# Altium footprint library A767KS106M2ALAE045.PcbLib: 1 footprints
Each footprint in its own frame and in the unit in brackets; x right, y up, seen from the top. Pads: shape width x height; smd on the part's side, far side on the other; paste and mask are expansions set on the pad; w line width, h text height; cw(c..) or ccw(c..) is an arc to the next point about the centre after c.
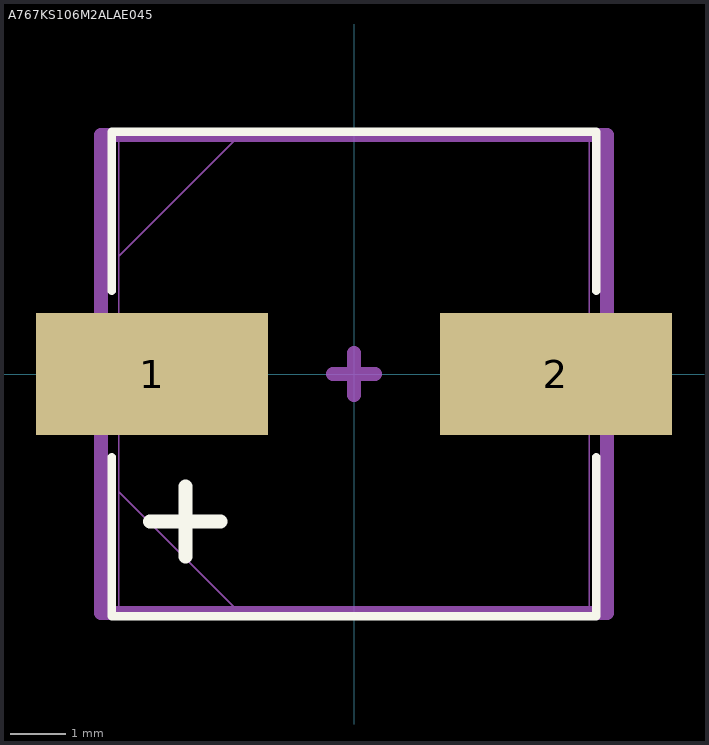
[diagram p0: the footprint, top view; thin cyan lines are the x and y axes]

## A767KS106M2ALAE045 [mm]
height 12.2
pads (2):
  rect 4.2x2.2 smd paste+0 mask+0: 1(-3.65,0) 2(3.65,0)
Top Overlay:
  lines w0.152: -4.381,-1.5 -4.381,-4.381 4.381,-4.381 4.381,-1.5 ; -4.381,1.5 -4.381,4.381 4.381,4.381 4.381,1.5
  lines w0.254: -3.683,-2.667 -2.413,-2.667 ; -3.048,-3.302 -3.048,-2.032
Mechanical 13:
  circle w0: c-3.746,0 r0.076
  lines w0.025: -4.255,-2.127 -2.127,-4.255 ; -4.255,2.127 -2.127,4.255 ; -4.255,-4.255 4.255,-4.255 4.255,4.255 -4.255,4.255 -4.255,-4.255
  lines w0.254: -4.572,-4.318 -4.572,4.318 4.572,4.318 4.572,-4.318 -4.572,-4.318
Mechanical 15:
  lines w0.254: -0.381,0 0.381,0 ; 0,-0.381 0,0.381
3D body "A767KS106M2ALAE045.step": height 12.55, standoff 0, extent -4.597,-4.254 4.597,4.254